# Altium integrated library ON Semi Digital Transistors (BRTs).IntLib: 470 symbols (part 5 of 11)
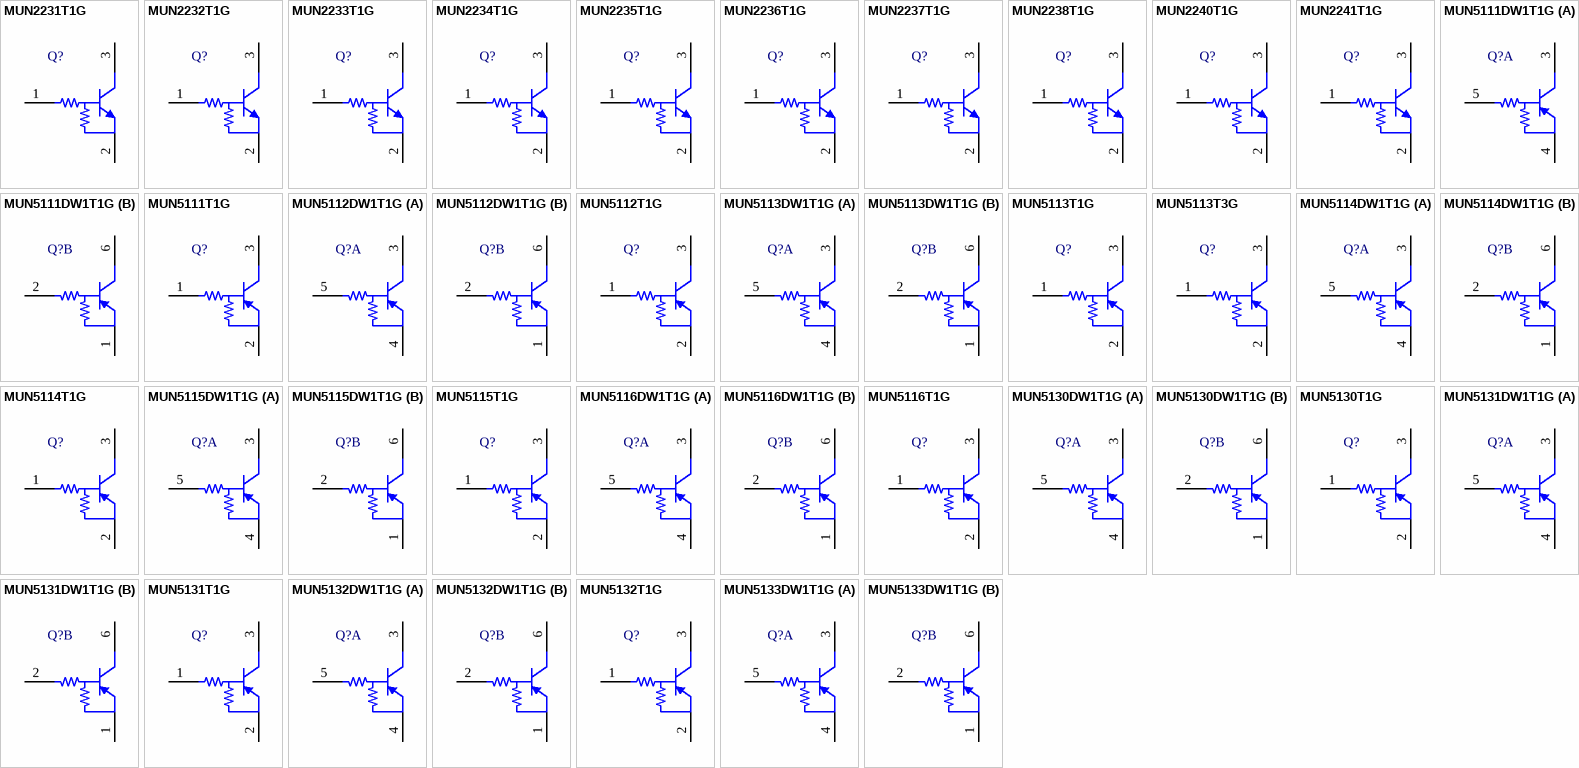
[diagram p20: symbols MUN2231T1G to MUN5133DW1T1G]

## MUN5115T1G
designator Q?
Digital Transistor (BRT), R1=10 kOhm, R2=infinity kOhm, PNP Transistor, 3-Pin SC70, Pb-Free, Tape and Reel; Manufacturer: On Semiconductor; PartNumber: MUN5115T1G; hFE Min: 160; IC Continuous (A): 0.1; V(BR)CEO Min (V): 50; DatasheetVersion: Rev. 2; PackageVersion: Rev. N, 11/2008; PackageReference: SC-70-3-419-04; PackageDescription: 3-Pin Small Outline Transistor, Body 2 x 1.25 mm, Pitch 0.65 mm; Supplier 1: Digi-Key; Supplier Part Number 1: MUN5115T1G-ND; Supplier 2: Mouser; Supplier Part Number 2: 863-MUN5115T1G; Packing: Tape and Reel; Polarity: PNP; RoHS: TRUE; Mounting Technology: Surface Mount; ComponentLink1Description: Manufacturer URL; ComponentLink1URL: http://www.onsemi.com/; ComponentLink2Description: Datasheet; ComponentLink2URL: http://www.onsemi.cn/pub_link/Collateral/DTA114T-D.PDF; ComponentLink3Description: Package Specification; ComponentLink3URL: http://www.onsemi.cn/pub_link/Collateral/419-04.PDF
footprint ONSC-SC-70-3-419-04_V (SOT23, 3-Leads, Body 2x1.25mm, Pitch 0.65mm)
pins: 1 B, 2 E, 3 C

## MUN5116DW1T1G
designator Q?
Dual PNP Bias Resistor Transistors, R1=4.7 kOhm, R2=infinity kOhm, PNP Transistor, 6-Pin SOT-363, Pb-Free, Tape and Reel; Manufacturer: On Semiconductor; PartNumber: MUN5116DW1T1G; hFE Min: 160; IC Continuous (A): 0.1; V(BR)CEO Min (V): 50; DatasheetVersion: Rev. 0; PackageVersion: Rev. W, 01/2006; PackageReference: SOT-363-6-419B-02_W; PackageDescription: 6-Pin Small Outline Transistor, Body 2 x 1.25 mm, Pitch 0.65 mm; Supplier 1: Digi-Key; Supplier Part Number 1: MUN5116DW1T1G-ND; Supplier 2: Mouser; Supplier Part Number 2: 863-MUN5116DW1T1G; Packing: Tape and Reel; Polarity: Dual PNP; RoHS: TRUE; Mounting Technology: Surface Mount; ComponentLink1Description: Manufacturer URL; ComponentLink1URL: http://www.onsemi.com/; ComponentLink2Description: Datasheet; ComponentLink2URL: http://www.onsemi.cn/pub_link/Collateral/DTA143TD-D.PDF; ComponentLink3Description: Package Specification; ComponentLink3URL: http://www.onsemi.com/pub_link/Collateral/NTJD4001N-D.PDF
footprint ONSC-SOT-363-6-419B-02_W_V (SOT23, 6-Leads, Body 2x1.25mm, Pitch 0.65mm)
part A pins: 3 C, 4 E, 5 B
part B pins: 1 E, 2 B, 6 C

## MUN5116T1G
designator Q?
Digital Transistor (BRT), R1=4.7 kOhm, R2=infinity kOhm, PNP Transistor, 3-Pin SC70, Pb-Free, Tape and Reel; Manufacturer: On Semiconductor; PartNumber: MUN5116T1G; hFE Min: 160; IC Continuous (A): 0.1; V(BR)CEO Min (V): 50; DatasheetVersion: Rev. 2; PackageVersion: Rev. N, 11/2008; PackageReference: SC-70-3-419-04; PackageDescription: 3-Pin Small Outline Transistor, Body 2 x 1.25 mm, Pitch 0.65 mm; Supplier 1: Digi-Key; Supplier Part Number 1: MUN5116T1G-ND; Supplier 2: Mouser; Supplier Part Number 2: 863-MUN5116T1G; Packing: Tape and Reel; Polarity: PNP; RoHS: TRUE; Mounting Technology: Surface Mount; ComponentLink1Description: Manufacturer URL; ComponentLink1URL: http://www.onsemi.com/; ComponentLink2Description: Datasheet; ComponentLink2URL: http://www.onsemi.cn/pub_link/Collateral/DTA143T-D.PDF; ComponentLink3Description: Package Specification; ComponentLink3URL: http://www.onsemi.cn/pub_link/Collateral/419-04.PDF
footprint ONSC-SC-70-3-419-04_V (SOT23, 3-Leads, Body 2x1.25mm, Pitch 0.65mm)
pins: 1 B, 2 E, 3 C

## MUN5130DW1T1G
designator Q?
Dual PNP Bias Resistor Transistors, R1=1 kOhm, R2=1 kOhm, PNP Transistor, 6-Pin SOT-363, Pb-Free, Tape and Reel; Manufacturer: On Semiconductor; PartNumber: MUN5130DW1T1G; hFE Min: 3; IC Continuous (A): 0.1; R1/R2 Typ: 1; V(BR)CEO Min (V): 50; DatasheetVersion: Rev. 2; PackageVersion: Rev. Y, 12/2012; PackageReference: SOT-363-6-419B-02; PackageDescription: 6-Pin Small Outline Transistor, Body 2 x 1.25 mm, Pitch 0.65 mm; Supplier 1: Digi-Key; Supplier Part Number 1: MUN5130DW1T1G-ND; Supplier 2: Mouser; Supplier Part Number 2: 863-MUN5130DW1T1G; Packing: Tape and Reel; Polarity: Dual PNP; RoHS: TRUE; Mounting Technology: Surface Mount; ComponentLink1Description: Manufacturer URL; ComponentLink1URL: http://www.onsemi.com/; ComponentLink2Description: Datasheet; ComponentLink2URL: http://www.onsemi.cn/pub_link/Collateral/DTA113ED-D.PDF; ComponentLink3Description: Package Specification; ComponentLink3URL: http://www.onsemi.cn/pub_link/Collateral/419B-02.PDF
footprint ONSC-SOT-363-6-419B-02_V (SOT23, 6-Leads, Body 2x1.25mm, Pitch 0.65mm)
part A pins: 3 C, 4 E, 5 B
part B pins: 1 E, 2 B, 6 C

## MUN5130T1G
designator Q?
Digital Transistor (BRT), R1=1 kOhm, R2=1 kOhm, PNP Transistor, 3-Pin SC70, Pb-Free, Tape and Reel; Manufacturer: On Semiconductor; PartNumber: MUN5130T1G; hFE Min: 3; IC Continuous (A): 0.1; R1/R2 Typ: 1; V(BR)CEO Min (V): 50; DatasheetVersion: Rev. 4; PackageVersion: Rev. N, 11/2008; PackageReference: SC-70-3-419-04; PackageDescription: 3-Pin Small Outline Transistor, Body 2 x 1.25 mm, Pitch 0.65 mm; Supplier 1: Mouser; Supplier Part Number 1: 863-MUN5130T1G; Packing: Tape and Reel; Polarity: PNP; RoHS: TRUE; Mounting Technology: Surface Mount; ComponentLink1Description: Manufacturer URL; ComponentLink1URL: http://www.onsemi.com/; ComponentLink2Description: Datasheet; ComponentLink2URL: http://www.onsemi.cn/pub_link/Collateral/DTA113E-D.PDF; ComponentLink3Description: Package Specification; ComponentLink3URL: http://www.onsemi.cn/pub_link/Collateral/419-04.PDF
footprint ONSC-SC-70-3-419-04_V (SOT23, 3-Leads, Body 2x1.25mm, Pitch 0.65mm)
pins: 1 B, 2 E, 3 C

## MUN5131DW1T1G
designator Q?
Dual PNP Bias Resistor Transistors, R1=2.2 kOhm, R2=2.2 kOhm, PNP Transistor, 6-Pin SOT-363, Pb-Free, Tape and Reel; Manufacturer: On Semiconductor; PartNumber: MUN5131DW1T1G; hFE Min: 8; IC Continuous (A): 0.1; R1/R2 Typ: 1; V(BR)CEO Min (V): 50; DatasheetVersion: Rev. 0; PackageVersion: Rev. W, 01/2006; PackageReference: SOT-363-6-419B-02_W; PackageDescription: 6-Pin Small Outline Transistor, Body 2 x 1.25 mm, Pitch 0.65 mm; Supplier 1: Digi-Key; Supplier Part Number 1: MUN5131DW1T1G-ND; Supplier 2: Mouser; Supplier Part Number 2: 863-MUN5131DW1T1G; Packing: Tape and Reel; Polarity: Dual PNP; RoHS: TRUE; Mounting Technology: Surface Mount; ComponentLink1Description: Manufacturer URL; ComponentLink1URL: http://www.onsemi.com/; ComponentLink2Description: Datasheet; ComponentLink2URL: http://www.onsemi.cn/pub_link/Collateral/DTA123ED-D.PDF; ComponentLink3Description: Package Specification; ComponentLink3URL: http://www.onsemi.com/pub_link/Collateral/NTJD4001N-D.PDF
footprint ONSC-SOT-363-6-419B-02_W_V (SOT23, 6-Leads, Body 2x1.25mm, Pitch 0.65mm)
part A pins: 3 C, 4 E, 5 B
part B pins: 1 E, 2 B, 6 C

## MUN5131T1G
designator Q?
Digital Transistor (BRT), R1=2.2 kOhm, R2=2.2 kOhm, PNP Transistor, 3-Pin SC70, Pb-Free, Tape and Reel; Manufacturer: On Semiconductor; PartNumber: MUN5131T1G; hFE Min: 8; IC Continuous (A): 0.1; R1/R2 Typ: 1; V(BR)CEO Min (V): 50; DatasheetVersion: Rev. 3; PackageVersion: Rev. N, 11/2008; PackageReference: SC-70-3-419-04; PackageDescription: 3-Pin Small Outline Transistor, Body 2 x 1.25 mm, Pitch 0.65 mm; Supplier 1: Digi-Key; Supplier Part Number 1: MUN5131T1G-ND; Supplier 2: Newark; Supplier Part Number 2: 88H4929; Supplier 3: Mouser; Supplier Part Number 3: 863-MUN5131T1G; Packing: Tape and Reel; Polarity: PNP; RoHS: TRUE; Mounting Technology: Surface Mount; ComponentLink1Description: Manufacturer URL; ComponentLink1URL: http://www.onsemi.com/; ComponentLink2Description: Datasheet; ComponentLink2URL: http://www.onsemi.cn/pub_link/Collateral/DTA123E-D.PDF; ComponentLink3Description: Package Specification; ComponentLink3URL: http://www.onsemi.cn/pub_link/Collateral/419-04.PDF
footprint ONSC-SC-70-3-419-04_V (SOT23, 3-Leads, Body 2x1.25mm, Pitch 0.65mm)
pins: 1 B, 2 E, 3 C

## MUN5132DW1T1G
designator Q?
Dual PNP Bias Resistor Transistors, R1=4.7 kOhm, R2=4.7 kOhm, PNP Transistor, 6-Pin SOT-363, Pb-Free, Tape and Reel; Manufacturer: On Semiconductor; PartNumber: MUN5132DW1T1G; hFE Min: 15; IC Continuous (A): 0.1; R1/R2 Typ: 1; V(BR)CEO Min (V): 50; DatasheetVersion: Rev. 0; PackageVersion: Rev. W, 01/2006; PackageReference: SOT-363-6-419B-02_W; PackageDescription: 6-Pin Small Outline Transistor, Body 2 x 1.25 mm, Pitch 0.65 mm; Supplier 1: Mouser; Supplier Part Number 1: 863-MUN5132DW1T1G; Packing: Tape and Reel; Polarity: Dual PNP; RoHS: TRUE; Mounting Technology: Surface Mount; ComponentLink1Description: Manufacturer URL; ComponentLink1URL: http://www.onsemi.com/; ComponentLink2Description: Datasheet; ComponentLink2URL: http://www.onsemi.cn/pub_link/Collateral/DTA143ED-D.PDF; ComponentLink3Description: Package Specification; ComponentLink3URL: http://www.onsemi.com/pub_link/Collateral/NTJD4001N-D.PDF
footprint ONSC-SOT-363-6-419B-02_W_V (SOT23, 6-Leads, Body 2x1.25mm, Pitch 0.65mm)
part A pins: 3 C, 4 E, 5 B
part B pins: 1 E, 2 B, 6 C

## MUN5132T1G
designator Q?
Digital Transistor (BRT), R1=4.7 kOhm, R2=4.7 kOhm, PNP Transistor, 3-Pin SC70, Pb-Free, Tape and Reel; Manufacturer: On Semiconductor; PartNumber: MUN5132T1G; hFE Min: 15; IC Continuous (A): 0.1; R1/R2 Typ: 1; V(BR)CEO Min (V): 50; DatasheetVersion: Rev. 2; PackageVersion: Rev. N, 11/2008; PackageReference: SC-70-3-419-04; PackageDescription: 3-Pin Small Outline Transistor, Body 2 x 1.25 mm, Pitch 0.65 mm; Supplier 1: Digi-Key; Supplier Part Number 1: MUN5132T1G-ND; Supplier 2: Newark; Supplier Part Number 2: 45J1720; Supplier 3: Mouser; Supplier Part Number 3: 863-MUN5132T1G; Packing: Tape and Reel; Polarity: PNP; RoHS: TRUE; Mounting Technology: Surface Mount; ComponentLink1Description: Manufacturer URL; ComponentLink1URL: http://www.onsemi.com/; ComponentLink2Description: Datasheet; ComponentLink2URL: http://www.onsemi.cn/pub_link/Collateral/DTA143E-D.PDF; ComponentLink3Description: Package Specification; ComponentLink3URL: http://www.onsemi.cn/pub_link/Collateral/419-04.PDF
footprint ONSC-SC-70-3-419-04_V (SOT23, 3-Leads, Body 2x1.25mm, Pitch 0.65mm)
pins: 1 B, 2 E, 3 C

## MUN5133DW1T1G
designator Q?
Dual PNP Bias Resistor Transistors, R1=4.7 kOhm, R2=47 kOhm, PNP Transistor, 6-Pin SOT-363, Pb-Free, Tape and Reel; Manufacturer: On Semiconductor; PartNumber: MUN5133DW1T1G; hFE Min: 80; IC Continuous (A): 0.1; V(BR)CEO Min (V): 50; DatasheetVersion: Rev. 1; PackageVersion: Rev. W, 01/2006; PackageReference: SOT-363-6-419B-02_W; PackageDescription: 6-Pin Small Outline Transistor, Body 2 x 1.25 mm, Pitch 0.65 mm; Supplier 1: Digi-Key; Supplier Part Number 1: MUN5133DW1T1G-ND; Supplier 2: Mouser; Supplier Part Number 2: 863-MUN5133DW1T1G; Packing: Tape and Reel; Polarity: Dual PNP; R1/R2 Typ: 0.1; RoHS: TRUE; Mounting Technology: Surface Mount; ComponentLink1Description: Manufacturer URL; ComponentLink1URL: http://www.onsemi.com/; ComponentLink2Description: Datasheet; ComponentLink2URL: http://www.onsemi.cn/pub_link/Collateral/DTA143ZD-D.PDF; ComponentLink3Description: Package Specification; ComponentLink3URL: http://www.onsemi.com/pub_link/Collateral/NTJD4001N-D.PDF
footprint ONSC-SOT-363-6-419B-02_W_V (SOT23, 6-Leads, Body 2x1.25mm, Pitch 0.65mm)
part A pins: 3 C, 4 E, 5 B
part B pins: 1 E, 2 B, 6 C

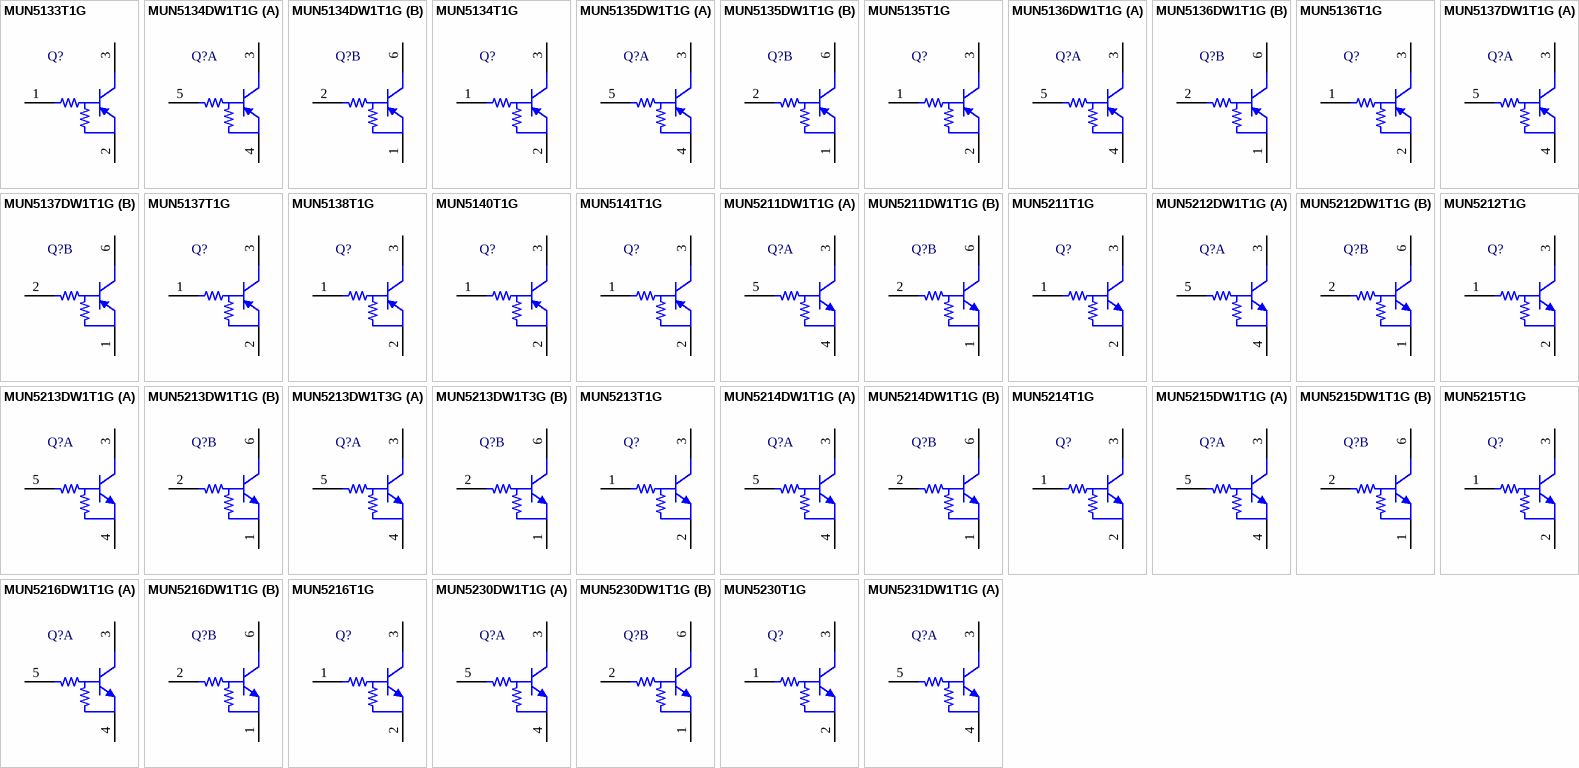
[diagram p5: symbols MUN5133T1G to MUN5231DW1T1G]

## MUN5133T1G
designator Q?
Digital Transistor (BRT), R1=4.7 kOhm, R2=47 kOhm, PNP Transistor, 3-Pin SC70, Pb-Free, Tape and Reel; Manufacturer: On Semiconductor; PartNumber: MUN5133T1G; hFE Min: 80; IC Continuous (A): 0.1; V(BR)CEO Min (V): 50; DatasheetVersion: Rev. 6; PackageVersion: Rev. N, 11/2008; PackageReference: SC-70-3-419-04; PackageDescription: 3-Pin Small Outline Transistor, Body 2 x 1.25 mm, Pitch 0.65 mm; Supplier 1: Digi-Key; Supplier Part Number 1: MUN5133T1G-ND; Supplier 2: Mouser; Supplier Part Number 2: 863-MUN5133T1G; Packing: Tape and Reel; Polarity: PNP; R1/R2 Typ: 0.1; RoHS: TRUE; Mounting Technology: Surface Mount; ComponentLink1Description: Manufacturer URL; ComponentLink1URL: http://www.onsemi.com/; ComponentLink2Description: Datasheet; ComponentLink2URL: http://www.onsemi.cn/pub_link/Collateral/DTA143Z-D.PDF; ComponentLink3Description: Package Specification; ComponentLink3URL: http://www.onsemi.cn/pub_link/Collateral/419-04.PDF
footprint ONSC-SC-70-3-419-04_V (SOT23, 3-Leads, Body 2x1.25mm, Pitch 0.65mm)
pins: 1 B, 2 E, 3 C

## MUN5134DW1T1G
designator Q?
Dual PNP Bias Resistor Transistors, R1=22 kOhm, R2=47 kOhm, PNP Transistor, 6-Pin SOT-363, Pb-Free, Tape and Reel; Manufacturer: On Semiconductor; PartNumber: MUN5134DW1T1G; hFE Min: 80; IC Continuous (A): 0.1; R1/R2 Typ: 0.47; V(BR)CEO Min (V): 50; DatasheetVersion: Rev. 0; PackageVersion: Rev. W, 01/2006; PackageReference: SOT-363-6-419B-02_W; PackageDescription: 6-Pin Small Outline Transistor, Body 2 x 1.25 mm, Pitch 0.65 mm; Supplier 1: Digi-Key; Supplier Part Number 1: MUN5134DW1T1G-ND; Supplier 2: Mouser; Supplier Part Number 2: 863-MUN5134DW1T1G; Packing: Tape and Reel; Polarity: Dual PNP; RoHS: TRUE; Mounting Technology: Surface Mount; ComponentLink1Description: Manufacturer URL; ComponentLink1URL: http://www.onsemi.com/; ComponentLink2Description: Datasheet; ComponentLink2URL: http://www.onsemi.cn/pub_link/Collateral/DTA124XD-D.PDF; ComponentLink3Description: Package Specification; ComponentLink3URL: http://www.onsemi.com/pub_link/Collateral/NTJD4001N-D.PDF
footprint ONSC-SOT-363-6-419B-02_W_V (SOT23, 6-Leads, Body 2x1.25mm, Pitch 0.65mm)
part A pins: 3 C, 4 E, 5 B
part B pins: 1 E, 2 B, 6 C

## MUN5134T1G
designator Q?
Digital Transistor (BRT), R1=22 kOhm, R2=47 kOhm, PNP Transistor, 3-Pin SC70, Pb-Free, Tape and Reel; Manufacturer: On Semiconductor; PartNumber: MUN5134T1G; hFE Min: 80; IC Continuous (A): 0.1; R1/R2 Typ: 0.47; V(BR)CEO Min (V): 50; DatasheetVersion: Rev. 3; PackageVersion: Rev. N, 11/2008; PackageReference: SC-70-3-419-04; PackageDescription: 3-Pin Small Outline Transistor, Body 2 x 1.25 mm, Pitch 0.65 mm; Supplier 1: Mouser; Supplier Part Number 1: 863-MUN5134T1G; Packing: Tape and Reel; Polarity: PNP; RoHS: TRUE; Mounting Technology: Surface Mount; ComponentLink1Description: Manufacturer URL; ComponentLink1URL: http://www.onsemi.com/; ComponentLink2Description: Datasheet; ComponentLink2URL: http://www.onsemi.cn/pub_link/Collateral/DTA124X-D.PDF; ComponentLink3Description: Package Specification; ComponentLink3URL: http://www.onsemi.cn/pub_link/Collateral/419-04.PDF
footprint ONSC-SC-70-3-419-04_V (SOT23, 3-Leads, Body 2x1.25mm, Pitch 0.65mm)
pins: 1 B, 2 E, 3 C

## MUN5135DW1T1G
designator Q?
Dual PNP Bias Resistor Transistors, R1=2.2 kOhm, R2=47 kOhm, PNP Transistor, 6-Pin SOT-363, Pb-Free, Tape and Reel; Manufacturer: On Semiconductor; PartNumber: MUN5135DW1T1G; hFE Min: 80; IC Continuous (A): 0.1; R1/R2 Typ: 0.047; V(BR)CEO Min (V): 50; DatasheetVersion: Rev. 0; PackageVersion: Rev. W, 01/2006; PackageReference: SOT-363-6-419B-02_W; PackageDescription: 6-Pin Small Outline Transistor, Body 2 x 1.25 mm, Pitch 0.65 mm; Supplier 1: Digi-Key; Supplier Part Number 1: MUN5135DW1T1G-ND; Supplier 2: Newark; Supplier Part Number 2: 42K1564; Supplier 3: Mouser; Supplier Part Number 3: 863-MUN5135DW1T1G; Packing: Tape and Reel; Polarity: Dual PNP; RoHS: TRUE; Mounting Technology: Surface Mount; ComponentLink1Description: Manufacturer URL; ComponentLink1URL: http://www.onsemi.com/; ComponentLink2Description: Datasheet; ComponentLink2URL: http://www.onsemi.cn/pub_link/Collateral/DTA123JD-D.PDF; ComponentLink3Description: Package Specification; ComponentLink3URL: http://www.onsemi.com/pub_link/Collateral/NTJD4001N-D.PDF
footprint ONSC-SOT-363-6-419B-02_W_V (SOT23, 6-Leads, Body 2x1.25mm, Pitch 0.65mm)
part A pins: 3 C, 4 E, 5 B
part B pins: 1 E, 2 B, 6 C

## MUN5135T1G
designator Q?
Digital Transistor (BRT), R1=2.2 kOhm, R2=47 kOhm, PNP Transistor, 3-Pin SC70, Pb-Free, Tape and Reel; Manufacturer: On Semiconductor; PartNumber: MUN5135T1G; hFE Min: 80; IC Continuous (A): 0.1; R1/R2 Typ: 0.047; V(BR)CEO Min (V): 50; DatasheetVersion: Rev. 2; PackageVersion: Rev. N, 11/2008; PackageReference: SC-70-3-419-04; PackageDescription: 3-Pin Small Outline Transistor, Body 2 x 1.25 mm, Pitch 0.65 mm; Supplier 1: Digi-Key; Supplier Part Number 1: MUN5135T1GOSTR-ND; Supplier 2: Digi-Key; Supplier Part Number 2: MUN5135T1GOSCT-ND; Supplier 3: Digi-Key; Supplier Part Number 3: MUN5135T1GOSDKR-ND; Supplier 4: Newark; Supplier Part Number 4: 26K4679; Supplier 5: Mouser; Supplier Part Number 5: 863-MUN5135T1G; Packing: Tape and Reel; Polarity: PNP; RoHS: TRUE; Mounting Technology: Surface Mount; ComponentLink1Description: Manufacturer URL; ComponentLink1URL: http://www.onsemi.com/; ComponentLink2Description: Datasheet; ComponentLink2URL: http://www.onsemi.cn/pub_link/Collateral/DTA123J-D.PDF; ComponentLink3Description: Package Specification; ComponentLink3URL: http://www.onsemi.cn/pub_link/Collateral/419-04.PDF
footprint ONSC-SC-70-3-419-04_V (SOT23, 3-Leads, Body 2x1.25mm, Pitch 0.65mm)
pins: 1 B, 2 E, 3 C

## MUN5136DW1T1G
designator Q?
Dual PNP Bias Resistor Transistors, R1=100 kOhm, R2=100 kOhm, PNP Transistor, 6-Pin SOT-363, Pb-Free, Tape and Reel; Manufacturer: On Semiconductor; PartNumber: MUN5136DW1T1G; hFE Min: 80; IC Continuous (A): 0.1; R1/R2 Typ: 1; V(BR)CEO Min (V): 50; DatasheetVersion: Rev. 0; PackageVersion: Rev. Y, 12/2012; PackageReference: SOT-363-6-419B-02; PackageDescription: 6-Pin Small Outline Transistor, Body 2 x 1.25 mm, Pitch 0.65 mm; Supplier 1: Mouser; Supplier Part Number 1: N/A; Packing: Tape and Reel; Polarity: Dual PNP; RoHS: TRUE; Mounting Technology: Surface Mount; ComponentLink1Description: Manufacturer URL; ComponentLink1URL: http://www.onsemi.com/; ComponentLink2Description: Datasheet; ComponentLink2URL: http://www.onsemi.cn/pub_link/Collateral/DTA115ED-D.PDF; ComponentLink3Description: Package Specification; ComponentLink3URL: http://www.onsemi.cn/pub_link/Collateral/419B-02.PDF
footprint ONSC-SOT-363-6-419B-02_V (SOT23, 6-Leads, Body 2x1.25mm, Pitch 0.65mm)
part A pins: 3 C, 4 E, 5 B
part B pins: 1 E, 2 B, 6 C

## MUN5136T1G
designator Q?
Digital Transistor (BRT), R1=100 kOhm, R2=100 kOhm, PNP Transistor, 3-Pin SC70, Pb-Free, Tape and Reel; Manufacturer: On Semiconductor; PartNumber: MUN5136T1G; hFE Min: 80; IC Continuous (A): 0.1; R1/R2 Typ: 1; V(BR)CEO Min (V): 50; DatasheetVersion: Rev. 2; PackageVersion: Rev. N, 11/2008; PackageReference: SC-70-3-419-04; PackageDescription: 3-Pin Small Outline Transistor, Body 2 x 1.25 mm, Pitch 0.65 mm; Supplier 1: Mouser; Supplier Part Number 1: 863-MUN5136T1G; Packing: Tape and Reel; Polarity: PNP; RoHS: TRUE; Mounting Technology: Surface Mount; ComponentLink1Description: Manufacturer URL; ComponentLink1URL: http://www.onsemi.com/; ComponentLink2Description: Datasheet; ComponentLink2URL: http://www.onsemi.cn/pub_link/Collateral/DTA115E-D.PDF; ComponentLink3Description: Package Specification; ComponentLink3URL: http://www.onsemi.cn/pub_link/Collateral/419-04.PDF
footprint ONSC-SC-70-3-419-04_V (SOT23, 3-Leads, Body 2x1.25mm, Pitch 0.65mm)
pins: 1 B, 2 E, 3 C

## MUN5137DW1T1G
designator Q?
Dual PNP Bias Resistor Transistors, R1=47 kOhm, R2=22 kOhm, PNP Transistor, 6-Pin SOT-363, Pb-Free, Tape and Reel; Manufacturer: On Semiconductor; PartNumber: MUN5137DW1T1G; hFE Min: 80; IC Continuous (A): 0.1; R1/R2 Typ: 2.1; V(BR)CEO Min (V): 50; DatasheetVersion: Rev. 1; PackageVersion: Rev. Y, 12/2012; PackageReference: SOT-363-6-419B-02; PackageDescription: 6-Pin Small Outline Transistor, Body 2 x 1.25 mm, Pitch 0.65 mm; Supplier 1: Digi-Key; Supplier Part Number 1: MUN5137DW1T1GOS-ND; Supplier 2: Mouser; Supplier Part Number 2: 863-MUN5137DW1T1G; Packing: Tape and Reel; Polarity: Dual PNP; RoHS: TRUE; Mounting Technology: Surface Mount; ComponentLink1Description: Manufacturer URL; ComponentLink1URL: http://www.onsemi.com/; ComponentLink2Description: Datasheet; ComponentLink2URL: http://www.onsemi.cn/pub_link/Collateral/DTA144WD-D.PDF; ComponentLink3Description: Package Specification; ComponentLink3URL: http://www.onsemi.cn/pub_link/Collateral/419B-02.PDF
footprint ONSC-SOT-363-6-419B-02_V (SOT23, 6-Leads, Body 2x1.25mm, Pitch 0.65mm)
part A pins: 3 C, 4 E, 5 B
part B pins: 1 E, 2 B, 6 C

## MUN5137T1G
designator Q?
Digital Transistor (BRT), R1=47 kOhm, R2=22 kOhm, PNP Transistor, 3-Pin SC70, Pb-Free, Tape and Reel; Manufacturer: On Semiconductor; PartNumber: MUN5137T1G; hFE Min: 80; IC Continuous (A): 0.1; R1/R2 Typ: 2.1; V(BR)CEO Min (V): 50; DatasheetVersion: Rev. 2; PackageVersion: Rev. N, 11/2008; PackageReference: SC-70-3-419-04; PackageDescription: 3-Pin Small Outline Transistor, Body 2 x 1.25 mm, Pitch 0.65 mm; Supplier 1: Digi-Key; Supplier Part Number 1: MUN5137T1GOS-ND; Supplier 2: Mouser; Supplier Part Number 2: 863-MUN5137T1G; Packing: Tape and Reel; Polarity: PNP; RoHS: TRUE; Mounting Technology: Surface Mount; ComponentLink1Description: Manufacturer URL; ComponentLink1URL: http://www.onsemi.com/; ComponentLink2Description: Datasheet; ComponentLink2URL: http://www.onsemi.cn/pub_link/Collateral/DTA144W-D.PDF; ComponentLink3Description: Package Specification; ComponentLink3URL: http://www.onsemi.cn/pub_link/Collateral/419-04.PDF
footprint ONSC-SC-70-3-419-04_V (SOT23, 3-Leads, Body 2x1.25mm, Pitch 0.65mm)
pins: 1 B, 2 E, 3 C

## MUN5138T1G
designator Q?
Digital Transistor (BRT), R1=2.2 kOhm, R2=infinity kOhm, PNP Transistor, 3-Pin SC70, Pb-Free, Tape and Reel; Manufacturer: On Semiconductor; PartNumber: MUN5138T1G; hFE Min: 160; IC Continuous (A): 0.1; V(BR)CEO Min (V): 50; DatasheetVersion: Rev. 2; PackageVersion: Rev. N, 11/2008; PackageReference: SC-70-3-419-04; PackageDescription: 3-Pin Small Outline Transistor, Body 2 x 1.25 mm, Pitch 0.65 mm; Supplier 1: Newark; Supplier Part Number 1: 97W6159; Supplier 2: Mouser; Supplier Part Number 2: 863-MUN5138T1G; Packing: Tape and Reel; Polarity: PNP; RoHS: TRUE; Mounting Technology: Surface Mount; ComponentLink1Description: Manufacturer URL; ComponentLink1URL: http://www.onsemi.com/; ComponentLink2Description: Datasheet; ComponentLink2URL: http://www.onsemi.cn/pub_link/Collateral/DTA123T-D.PDF; ComponentLink3Description: Package Specification; ComponentLink3URL: http://www.onsemi.cn/pub_link/Collateral/419-04.PDF
footprint ONSC-SC-70-3-419-04_V (SOT23, 3-Leads, Body 2x1.25mm, Pitch 0.65mm)
pins: 1 B, 2 E, 3 C

## MUN5140T1G
designator Q?
Digital Transistor (BRT), R1=47 kOhm, R2=infinity kOhm, PNP Transistor, 3-Pin SC70, Pb-Free, Tape and Reel; Manufacturer: On Semiconductor; PartNumber: MUN5140T1G; hFE Min: 120; IC Continuous (A): 0.1; V(BR)CEO Min (V): 50; DatasheetVersion: Rev. 2; PackageVersion: Rev. N, 11/2008; PackageReference: SC-70-3-419-04; PackageDescription: 3-Pin Small Outline Transistor, Body 2 x 1.25 mm, Pitch 0.65 mm; Supplier 1: Newark; Supplier Part Number 1: 97W6160; Supplier 2: Mouser; Supplier Part Number 2: 863-MUN5140T1G; Packing: Tape and Reel; Polarity: PNP; RoHS: TRUE; Mounting Technology: Surface Mount; ComponentLink1Description: Manufacturer URL; ComponentLink1URL: http://www.onsemi.com/; ComponentLink2Description: Datasheet; ComponentLink2URL: http://www.onsemi.cn/pub_link/Collateral/DTA144T-D.PDF; ComponentLink3Description: Package Specification; ComponentLink3URL: http://www.onsemi.cn/pub_link/Collateral/419-04.PDF
footprint ONSC-SC-70-3-419-04_V (SOT23, 3-Leads, Body 2x1.25mm, Pitch 0.65mm)
pins: 1 B, 2 E, 3 C

## MUN5141T1G
designator Q?
Digital Transistor (BRT), R1=100 kOhm, R2=infinity kOhm, PNP Transistor, 3-Pin SC70, Pb-Free, Tape and Reel; Manufacturer: On Semiconductor; PartNumber: MUN5141T1G; hFE Min: 160; IC Continuous (A): 0.1; V(BR)CEO Min (V): 50; DatasheetVersion: Rev. 2; PackageVersion: Rev. N, 11/2008; PackageReference: SC-70-3-419-04; PackageDescription: 3-Pin Small Outline Transistor, Body 2 x 1.25 mm, Pitch 0.65 mm; Supplier 1: Newark; Supplier Part Number 1: 97W6161; Supplier 2: Mouser; Supplier Part Number 2: 863-MUN5141T1G; Packing: Tape and Reel; Polarity: PNP; RoHS: TRUE; Mounting Technology: Surface Mount; ComponentLink1Description: Manufacturer URL; ComponentLink1URL: http://www.onsemi.com/; ComponentLink2Description: Datasheet; ComponentLink2URL: http://www.onsemi.cn/pub_link/Collateral/DTA115T-D.PDF; ComponentLink3Description: Package Specification; ComponentLink3URL: http://www.onsemi.cn/pub_link/Collateral/419-04.PDF
footprint ONSC-SC-70-3-419-04_V (SOT23, 3-Leads, Body 2x1.25mm, Pitch 0.65mm)
pins: 1 B, 2 E, 3 C

## MUN5211DW1T1G
designator Q?
Dual NPN Bias Resistor Transistors, R1=10 kOhm, R2=10 kOhm, NPN Transistor, 6-Pin SOT-363, Pb-Free, Tape and Reel; Manufacturer: On Semiconductor; PartNumber: MUN5211DW1T1G; hFE Min: 35; IC Continuous (A): 0.1; R1/R2 Typ: 1; V(BR)CEO Min (V): 50; DatasheetVersion: Rev. 1; PackageVersion: Rev. Y, 12/2012; PackageReference: SOT-363-6-419B-02; PackageDescription: 6-Pin Small Outline Transistor, Body 2 x 1.25 mm, Pitch 0.65 mm; Supplier 1: Digi-Key; Supplier Part Number 1: MUN5211DW1T1GOSTR-ND; Supplier 2: Digi-Key; Supplier Part Number 2: MUN5211DW1T1GOSCT-ND; Supplier 3: Digi-Key; Supplier Part Number 3: MUN5211DW1T1GOSDKR-ND; Supplier 4: Farnell; Supplier Part Number 4: 2317633; Supplier 5: Farnell; Supplier Part Number 5: 1885834; Supplier 6: Newark; Supplier Part Number 6: 84K8819; Supplier 7: Newark; Supplier Part Number 7: 45J1722; Supplier 8: Mouser; Supplier Part Number 8: 863-MUN5211DW1T1G; Packing: Tape and Reel; Polarity: Dual NPN; RoHS: TRUE; Mounting Technology: Surface Mount; ComponentLink1Description: Manufacturer URL; ComponentLink1URL: http://www.onsemi.com/; ComponentLink2Description: Datasheet; ComponentLink2URL: http://www.onsemi.cn/pub_link/Collateral/DTC114ED-D.PDF; ComponentLink3Description: Package Specification; ComponentLink3URL: http://www.onsemi.cn/pub_link/Collateral/419B-02.PDF
footprint ONSC-SOT-363-6-419B-02_V (SOT23, 6-Leads, Body 2x1.25mm, Pitch 0.65mm)
part A pins: 3 C, 4 E, 5 B
part B pins: 1 E, 2 B, 6 C

## MUN5211T1G
designator Q?
Digital Transistor (BRT), R1=10 kOhm, R2=10 kOhm, NPN Transistor, 3-Pin SC70, Pb-Free, Tape and Reel; Manufacturer: On Semiconductor; PartNumber: MUN5211T1G; hFE Min: 35; IC Continuous (A): 0.1; R1/R2 Typ: 1; V(BR)CEO Min (V): 50; DatasheetVersion: Rev. 5; PackageVersion: Rev. N, 11/2008; PackageReference: SC-70-3-419-04; PackageDescription: 3-Pin Small Outline Transistor, Body 2 x 1.25 mm, Pitch 0.65 mm; Supplier 1: Digi-Key; Supplier Part Number 1: MUN5211T1GOSTR-ND; Supplier 2: Digi-Key; Supplier Part Number 2: MUN5211T1GOSCT-ND; Supplier 3: Digi-Key; Supplier Part Number 3: MUN5211T1GOSDKR-ND; Supplier 4: Farnell; Supplier Part Number 4: 2317907; Supplier 5: Newark; Supplier Part Number 5: 85W3172; Supplier 6: Newark; Supplier Part Number 6: 88H4930; Supplier 7: Mouser; Supplier Part Number 7: 863-MUN5211T1G; Packing: Tape and Reel; Polarity: NPN; RoHS: TRUE; Mounting Technology: Surface Mount; ComponentLink1Description: Manufacturer URL; ComponentLink1URL: http://www.onsemi.com/; ComponentLink2Description: Datasheet; ComponentLink2URL: http://www.onsemi.cn/pub_link/Collateral/DTC114E-D.PDF; ComponentLink3Description: Package Specification; ComponentLink3URL: http://www.onsemi.cn/pub_link/Collateral/419-04.PDF
footprint ONSC-SC-70-3-419-04_V (SOT23, 3-Leads, Body 2x1.25mm, Pitch 0.65mm)
pins: 1 B, 2 E, 3 C

## MUN5212DW1T1G
designator Q?
Dual NPN Bias Resistor Transistors, R1=22 kOhm, R2=22 kOhm, NPN Transistor, 6-Pin SOT-363, Pb-Free, Tape and Reel; Manufacturer: On Semiconductor; PartNumber: MUN5212DW1T1G; hFE Min: 60; IC Continuous (A): 0.1; R1/R2 Typ: 1; V(BR)CEO Min (V): 50; DatasheetVersion: Rev. 0; PackageVersion: Rev. W, 01/2006; PackageReference: SOT-363-6-419B-02_W; PackageDescription: 6-Pin Small Outline Transistor, Body 2 x 1.25 mm, Pitch 0.65 mm; Supplier 1: Digi-Key; Supplier Part Number 1: MUN5212DW1T1GOSTR-ND; Supplier 2: Digi-Key; Supplier Part Number 2: MUN5212DW1T1GOSCT-ND; Supplier 3: Digi-Key; Supplier Part Number 3: MUN5212DW1T1GOSDKR-ND; Supplier 4: Newark; Supplier Part Number 4: 26K4681; Supplier 5: Mouser; Supplier Part Number 5: 863-MUN5212DW1T1G; Packing: Tape and Reel; Polarity: Dual NPN; RoHS: TRUE; Mounting Technology: Surface Mount; ComponentLink1Description: Manufacturer URL; ComponentLink1URL: http://www.onsemi.com/; ComponentLink2Description: Datasheet; ComponentLink2URL: http://www.onsemi.cn/pub_link/Collateral/DTC124ED-D.PDF; ComponentLink3Description: Package Specification; ComponentLink3URL: http://www.onsemi.com/pub_link/Collateral/NTJD4001N-D.PDF
footprint ONSC-SOT-363-6-419B-02_W_V (SOT23, 6-Leads, Body 2x1.25mm, Pitch 0.65mm)
part A pins: 3 C, 4 E, 5 B
part B pins: 1 E, 2 B, 6 C

## MUN5212T1G
designator Q?
Digital Transistor (BRT), R1=22 kOhm, R2=22 kOhm, NPN Transistor, 3-Pin SC70, Pb-Free, Tape and Reel; Manufacturer: On Semiconductor; PartNumber: MUN5212T1G; hFE Min: 60; IC Continuous (A): 0.1; R1/R2 Typ: 1; V(BR)CEO Min (V): 50; DatasheetVersion: Rev. 2; PackageVersion: Rev. N, 11/2008; PackageReference: SC-70-3-419-04; PackageDescription: 3-Pin Small Outline Transistor, Body 2 x 1.25 mm, Pitch 0.65 mm; Supplier 1: Digi-Key; Supplier Part Number 1: MUN5212T1GOSTR-ND; Supplier 2: Digi-Key; Supplier Part Number 2: MUN5212T1GOSCT-ND; Supplier 3: Digi-Key; Supplier Part Number 3: MUN5212T1GOSDKR-ND; Supplier 4: Newark; Supplier Part Number 4: 85W2302; Supplier 5: Mouser; Supplier Part Number 5: 863-MUN5212T1G; Packing: Tape and Reel; Polarity: NPN; RoHS: TRUE; Mounting Technology: Surface Mount; ComponentLink1Description: Manufacturer URL; ComponentLink1URL: http://www.onsemi.com/; ComponentLink2Description: Datasheet; ComponentLink2URL: http://www.onsemi.cn/pub_link/Collateral/DTC124E-D.PDF; ComponentLink3Description: Package Specification; ComponentLink3URL: http://www.onsemi.cn/pub_link/Collateral/419-04.PDF
footprint ONSC-SC-70-3-419-04_V (SOT23, 3-Leads, Body 2x1.25mm, Pitch 0.65mm)
pins: 1 B, 2 E, 3 C

## MUN5213DW1T1G
designator Q?
Dual NPN Bias Resistor Transistors, R1=47 kOhm, R2=47 kOhm, NPN Transistor, 6-Pin SOT-363, Pb-Free, Tape and Reel; Manufacturer: On Semiconductor; PartNumber: MUN5213DW1T1G; hFE Min: 80; IC Continuous (A): 0.1; R1/R2 Typ: 1; V(BR)CEO Min (V): 50; DatasheetVersion: Rev. 0; PackageVersion: Rev. Y, 12/2012; PackageReference: SOT-363-6-419B-02; PackageDescription: 6-Pin Small Outline Transistor, Body 2 x 1.25 mm, Pitch 0.65 mm; Supplier 1: Digi-Key; Supplier Part Number 1: MUN5213DW1T1GOSTR-ND; Supplier 2: Digi-Key; Supplier Part Number 2: MUN5213DW1T1GOSCT-ND; Supplier 3: Digi-Key; Supplier Part Number 3: MUN5213DW1T1GOSDKR-ND; Supplier 4: Newark; Supplier Part Number 4: 84K8820; Supplier 5: Mouser; Supplier Part Number 5: 863-MUN5213DW1T1G; Packing: Tape and Reel; Polarity: Dual NPN; RoHS: TRUE; Mounting Technology: Surface Mount; ComponentLink1Description: Manufacturer URL; ComponentLink1URL: http://www.onsemi.com/; ComponentLink2Description: Datasheet; ComponentLink2URL: http://www.onsemi.cn/pub_link/Collateral/DTC144ED-D.PDF; ComponentLink3Description: Package Specification; ComponentLink3URL: http://www.onsemi.cn/pub_link/Collateral/419B-02.PDF
footprint ONSC-SOT-363-6-419B-02_V (SOT23, 6-Leads, Body 2x1.25mm, Pitch 0.65mm)
part A pins: 3 C, 4 E, 5 B
part B pins: 1 E, 2 B, 6 C

## MUN5213DW1T3G
designator Q?
Dual NPN Bias Resistor Transistors, R1=47 kOhm, R2=47 kOhm, NPN Transistor, 6-Pin SOT-363, Pb-Free, Tape and Reel; Manufacturer: On Semiconductor; PartNumber: MUN5213DW1T3G; hFE Min: 80; IC Continuous (A): 0.1; R1/R2 Typ: 1; V(BR)CEO Min (V): 50; DatasheetVersion: Rev. 0; PackageVersion: Rev. Y, 12/2012; PackageReference: SOT-363-6-419B-02; PackageDescription: 6-Pin Small Outline Transistor, Body 2 x 1.25 mm, Pitch 0.65 mm; Supplier 1: Digi-Key; Supplier Part Number 1: MUN5213DW1T3G-ND; Supplier 2: Mouser; Supplier Part Number 2: 863-MUN5213DW1T3G; Packing: Tape and Reel; Polarity: Dual NPN; RoHS: TRUE; Mounting Technology: Surface Mount; ComponentLink1Description: Manufacturer URL; ComponentLink1URL: http://www.onsemi.com/; ComponentLink2Description: Datasheet; ComponentLink2URL: http://www.onsemi.cn/pub_link/Collateral/DTC144ED-D.PDF; ComponentLink3Description: Package Specification; ComponentLink3URL: http://www.onsemi.cn/pub_link/Collateral/419B-02.PDF
footprint ONSC-SOT-363-6-419B-02_V (SOT23, 6-Leads, Body 2x1.25mm, Pitch 0.65mm)
part A pins: 3 C, 4 E, 5 B
part B pins: 1 E, 2 B, 6 C

## MUN5213T1G
designator Q?
Digital Transistor (BRT), R1=47 kOhm, R2=47 kOhm, NPN Transistor, 3-Pin SC70, Pb-Free, Tape and Reel; Manufacturer: On Semiconductor; PartNumber: MUN5213T1G; hFE Min: 80; IC Continuous (A): 0.1; R1/R2 Typ: 1; V(BR)CEO Min (V): 50; DatasheetVersion: Rev. 2; PackageVersion: Rev. N, 11/2008; PackageReference: SC-70-3-419-04; PackageDescription: 3-Pin Small Outline Transistor, Body 2 x 1.25 mm, Pitch 0.65 mm; Supplier 1: Digi-Key; Supplier Part Number 1: MUN5213T1GOSTR-ND; Supplier 2: Digi-Key; Supplier Part Number 2: MUN5213T1GOSCT-ND; Supplier 3: Digi-Key; Supplier Part Number 3: MUN5213T1GOSDKR-ND; Supplier 4: Farnell; Supplier Part Number 4: 1706038; Supplier 5: Newark; Supplier Part Number 5: 88H4933; Supplier 6: Mouser; Supplier Part Number 6: 863-MUN5213T1G; Packing: Tape and Reel; Polarity: NPN; RoHS: TRUE; Mounting Technology: Surface Mount; ComponentLink1Description: Manufacturer URL; ComponentLink1URL: http://www.onsemi.com/; ComponentLink2Description: Datasheet; ComponentLink2URL: http://www.onsemi.cn/pub_link/Collateral/DTC144E-D.PDF; ComponentLink3Description: Package Specification; ComponentLink3URL: http://www.onsemi.cn/pub_link/Collateral/419-04.PDF
footprint ONSC-SC-70-3-419-04_V (SOT23, 3-Leads, Body 2x1.25mm, Pitch 0.65mm)
pins: 1 B, 2 E, 3 C

## MUN5214DW1T1G
designator Q?
Dual NPN Bias Resistor Transistors, R1=10 kOhm, R2=47 kOhm, NPN Transistor, 6-Pin SOT-363, Pb-Free, Tape and Reel; Manufacturer: On Semiconductor; PartNumber: MUN5214DW1T1G; hFE Min: 80; IC Continuous (A): 0.1; R1/R2 Typ: 0.21; V(BR)CEO Min (V): 50; DatasheetVersion: Rev. 0; PackageVersion: Rev. Y, 12/2012; PackageReference: SOT-363-6-419B-02; PackageDescription: 6-Pin Small Outline Transistor, Body 2 x 1.25 mm, Pitch 0.65 mm; Supplier 1: Digi-Key; Supplier Part Number 1: MUN5214DW1T1GOSTR-ND; Supplier 2: Digi-Key; Supplier Part Number 2: MUN5214DW1T1GOSCT-ND; Supplier 3: Digi-Key; Supplier Part Number 3: MUN5214DW1T1GOSDKR-ND; Supplier 4: Farnell; Supplier Part Number 4: 1705599; Supplier 5: Farnell; Supplier Part Number 5: 2372124; Supplier 6: Newark; Supplier Part Number 6: 10N9540; Supplier 7: Mouser; Supplier Part Number 7: 863-MUN5214DW1T1G; Packing: Tape and Reel; Polarity: Dual NPN; RoHS: TRUE; Mounting Technology: Surface Mount; ComponentLink1Description: Manufacturer URL; ComponentLink1URL: http://www.onsemi.com/; ComponentLink2Description: Datasheet; ComponentLink2URL: http://www.onsemi.cn/pub_link/Collateral/DTC114YD-D.PDF; ComponentLink3Description: Package Specification; ComponentLink3URL: http://www.onsemi.cn/pub_link/Collateral/419B-02.PDF
footprint ONSC-SOT-363-6-419B-02_V (SOT23, 6-Leads, Body 2x1.25mm, Pitch 0.65mm)
part A pins: 3 C, 4 E, 5 B
part B pins: 1 E, 2 B, 6 C

## MUN5214T1G
designator Q?
Digital Transistor (BRT), R1=10 kOhm, R2=47 kOhm, NPN Transistor, 3-Pin SC70, Pb-Free, Tape and Reel; Manufacturer: On Semiconductor; PartNumber: MUN5214T1G; hFE Min: 80; IC Continuous (A): 0.1; R1/R2 Typ: 0.21; V(BR)CEO Min (V): 50; DatasheetVersion: Rev. 3; PackageVersion: Rev. N, 11/2008; PackageReference: SC-70-3-419-04; PackageDescription: 3-Pin Small Outline Transistor, Body 2 x 1.25 mm, Pitch 0.65 mm; Supplier 1: Digi-Key; Supplier Part Number 1: MUN5214T1GOSTR-ND; Supplier 2: Digi-Key; Supplier Part Number 2: MUN5214T1GOSCT-ND; Supplier 3: Digi-Key; Supplier Part Number 3: MUN5214T1GOSDKR-ND; Supplier 4: Newark; Supplier Part Number 4: 88H4935; Supplier 5: Mouser; Supplier Part Number 5: 863-MUN5214T1G; Packing: Tape and Reel; Polarity: NPN; RoHS: TRUE; Mounting Technology: Surface Mount; ComponentLink1Description: Manufacturer URL; ComponentLink1URL: http://www.onsemi.com/; ComponentLink2Description: Datasheet; ComponentLink2URL: http://www.onsemi.cn/pub_link/Collateral/DTC114Y-D.PDF; ComponentLink3Description: Package Specification; ComponentLink3URL: http://www.onsemi.cn/pub_link/Collateral/419-04.PDF
footprint ONSC-SC-70-3-419-04_V (SOT23, 3-Leads, Body 2x1.25mm, Pitch 0.65mm)
pins: 1 B, 2 E, 3 C

## MUN5215DW1T1G
designator Q?
Dual NPN Bias Resistor Transistors, R1=10 kOhm, R2=infinity kOhm, NPN Transistor, 6-Pin SOT-363, Pb-Free, Tape and Reel; Manufacturer: On Semiconductor; PartNumber: MUN5215DW1T1G; hFE Min: 160; IC Continuous (A): 0.1; V(BR)CEO Min (V): 50; DatasheetVersion: Rev. 0; PackageVersion: Rev. W, 01/2006; PackageReference: SOT-363-6-419B-02_W; PackageDescription: 6-Pin Small Outline Transistor, Body 2 x 1.25 mm, Pitch 0.65 mm; Supplier 1: Digi-Key; Supplier Part Number 1: MUN5215DW1T1GOSTR-ND; Supplier 2: Digi-Key; Supplier Part Number 2: MUN5215DW1T1GOSCT-ND; Supplier 3: Digi-Key; Supplier Part Number 3: MUN5215DW1T1GOSDKR-ND; Supplier 4: Newark; Supplier Part Number 4: 84K8821; Supplier 5: Newark; Supplier Part Number 5: 88H4936; Supplier 6: Mouser; Supplier Part Number 6: 863-MUN5215DW1T1G; Packing: Tape and Reel; Polarity: Dual NPN; RoHS: TRUE; Mounting Technology: Surface Mount; ComponentLink1Description: Manufacturer URL; ComponentLink1URL: http://www.onsemi.com/; ComponentLink2Description: Datasheet; ComponentLink2URL: http://www.onsemi.cn/pub_link/Collateral/DTC114TD-D.PDF; ComponentLink3Description: Package Specification; ComponentLink3URL: http://www.onsemi.com/pub_link/Collateral/NTJD4001N-D.PDF
footprint ONSC-SOT-363-6-419B-02_W_V (SOT23, 6-Leads, Body 2x1.25mm, Pitch 0.65mm)
part A pins: 3 C, 4 E, 5 B
part B pins: 1 E, 2 B, 6 C

## MUN5215T1G
designator Q?
Digital Transistor (BRT), R1=10 kOhm, R2=infinity kOhm, NPN Transistor, 3-Pin SC70, Pb-Free, Tape and Reel; Manufacturer: On Semiconductor; PartNumber: MUN5215T1G; hFE Min: 160; IC Continuous (A): 0.1; V(BR)CEO Min (V): 50; DatasheetVersion: Rev. 1; PackageVersion: Rev. N, 11/2008; PackageReference: SC-70-3-419-04; PackageDescription: 3-Pin Small Outline Transistor, Body 2 x 1.25 mm, Pitch 0.65 mm; Supplier 1: Digi-Key; Supplier Part Number 1: MUN5215T1GOSTR-ND; Supplier 2: Digi-Key; Supplier Part Number 2: MUN5215T1GOSCT-ND; Supplier 3: Digi-Key; Supplier Part Number 3: MUN5215T1GOSDKR-ND; Supplier 4: Farnell; Supplier Part Number 4: 2317630; Supplier 5: Newark; Supplier Part Number 5: 85W3173; Supplier 6: Newark; Supplier Part Number 6: 88H4937; Supplier 7: Mouser; Supplier Part Number 7: 863-MUN5215T1G; Packing: Tape and Reel; Polarity: NPN; RoHS: TRUE; Mounting Technology: Surface Mount; ComponentLink1Description: Manufacturer URL; ComponentLink1URL: http://www.onsemi.com/; ComponentLink2Description: Datasheet; ComponentLink2URL: http://www.onsemi.cn/pub_link/Collateral/DTC114T-D.PDF; ComponentLink3Description: Package Specification; ComponentLink3URL: http://www.onsemi.cn/pub_link/Collateral/419-04.PDF
footprint ONSC-SC-70-3-419-04_V (SOT23, 3-Leads, Body 2x1.25mm, Pitch 0.65mm)
pins: 1 B, 2 E, 3 C

## MUN5216DW1T1G
designator Q?
Dual NPN Bias Resistor Transistors, R1=4.7 kOhm, R2=infinity kOhm, NPN Transistor, 6-Pin SOT-363, Pb-Free, Tape and Reel; Manufacturer: On Semiconductor; PartNumber: MUN5216DW1T1G; hFE Min: 160; IC Continuous (A): 0.1; V(BR)CEO Min (V): 50; DatasheetVersion: Rev. 0; PackageVersion: Rev. W, 01/2006; PackageReference: SOT-363-6-419B-02_W; PackageDescription: 6-Pin Small Outline Transistor, Body 2 x 1.25 mm, Pitch 0.65 mm; Supplier 1: Digi-Key; Supplier Part Number 1: MUN5216DW1T1GOSTR-ND; Supplier 2: Digi-Key; Supplier Part Number 2: MUN5216DW1T1GOSCT-ND; Supplier 3: Digi-Key; Supplier Part Number 3: MUN5216DW1T1GOSDKR-ND; Supplier 4: Newark; Supplier Part Number 4: 71J6207; Supplier 5: Mouser; Supplier Part Number 5: 863-MUN5216DW1T1G; Packing: Tape and Reel; Polarity: Dual NPN; RoHS: TRUE; Mounting Technology: Surface Mount; ComponentLink1Description: Manufacturer URL; ComponentLink1URL: http://www.onsemi.com/; ComponentLink2Description: Datasheet; ComponentLink2URL: http://www.onsemi.cn/pub_link/Collateral/DTC143TD-D.PDF; ComponentLink3Description: Package Specification; ComponentLink3URL: http://www.onsemi.com/pub_link/Collateral/NTJD4001N-D.PDF
footprint ONSC-SOT-363-6-419B-02_W_V (SOT23, 6-Leads, Body 2x1.25mm, Pitch 0.65mm)
part A pins: 3 C, 4 E, 5 B
part B pins: 1 E, 2 B, 6 C

## MUN5216T1G
designator Q?
Digital Transistor (BRT), R1=4.7 kOhm, R2=infinity kOhm, NPN Transistor, 3-Pin SC70, Pb-Free, Tape and Reel; Manufacturer: On Semiconductor; PartNumber: MUN5216T1G; hFE Min: 160; IC Continuous (A): 0.1; V(BR)CEO Min (V): 50; DatasheetVersion: Rev. 1; PackageVersion: Rev. N, 11/2008; PackageReference: SC-70-3-419-04; PackageDescription: 3-Pin Small Outline Transistor, Body 2 x 1.25 mm, Pitch 0.65 mm; Supplier 1: Digi-Key; Supplier Part Number 1: MUN5216T1G-ND; Supplier 2: Mouser; Supplier Part Number 2: 863-MUN5216T1G; Packing: Tape and Reel; Polarity: NPN; RoHS: TRUE; Mounting Technology: Surface Mount; ComponentLink1Description: Manufacturer URL; ComponentLink1URL: http://www.onsemi.com/; ComponentLink2Description: Datasheet; ComponentLink2URL: http://www.onsemi.cn/pub_link/Collateral/DTC143T-D.PDF; ComponentLink3Description: Package Specification; ComponentLink3URL: http://www.onsemi.cn/pub_link/Collateral/419-04.PDF
footprint ONSC-SC-70-3-419-04_V (SOT23, 3-Leads, Body 2x1.25mm, Pitch 0.65mm)
pins: 1 B, 2 E, 3 C

## MUN5230DW1T1G
designator Q?
Dual NPN Bias Resistor Transistors, R1=1 kOhm, R2=1 kOhm, NPN Transistor, 6-Pin SOT-363, Pb-Free, Tape and Reel; Manufacturer: On Semiconductor; PartNumber: MUN5230DW1T1G; hFE Min: 3; IC Continuous (A): 0.1; R1/R2 Typ: 1; V(BR)CEO Min (V): 50; DatasheetVersion: Rev. 0; PackageVersion: Rev. W, 01/2006; PackageReference: SOT-363-6-419B-02_W; PackageDescription: 6-Pin Small Outline Transistor, Body 2 x 1.25 mm, Pitch 0.65 mm; Supplier 1: Digi-Key; Supplier Part Number 1: MUN5230DW1T1GOSTR-ND; Supplier 2: Digi-Key; Supplier Part Number 2: MUN5230DW1T1GOSCT-ND; Supplier 3: Digi-Key; Supplier Part Number 3: MUN5230DW1T1GOSDKR-ND; Supplier 4: Farnell; Supplier Part Number 4: 1890485; Supplier 5: Newark; Supplier Part Number 5: 09R9571; Supplier 6: Mouser; Supplier Part Number 6: 863-MUN5230DW1T1G; Packing: Tape and Reel; Polarity: Dual NPN; RoHS: TRUE; Mounting Technology: Surface Mount; ComponentLink1Description: Manufacturer URL; ComponentLink1URL: http://www.onsemi.com/; ComponentLink2Description: Datasheet; ComponentLink2URL: http://www.onsemi.cn/pub_link/Collateral/DTC113ED-D.PDF; ComponentLink3Description: Package Specification; ComponentLink3URL: http://www.onsemi.com/pub_link/Collateral/NTJD4001N-D.PDF
footprint ONSC-SOT-363-6-419B-02_W_V (SOT23, 6-Leads, Body 2x1.25mm, Pitch 0.65mm)
part A pins: 3 C, 4 E, 5 B
part B pins: 1 E, 2 B, 6 C

## MUN5230T1G
designator Q?
Digital Transistor (BRT), R1=1 kOhm, R2=1 kOhm, NPN Transistor, 3-Pin SC70, Pb-Free, Tape and Reel; Manufacturer: On Semiconductor; PartNumber: MUN5230T1G; hFE Min: 3; IC Continuous (A): 0.1; R1/R2 Typ: 1; V(BR)CEO Min (V): 50; DatasheetVersion: Rev. 1; PackageVersion: Rev. N, 11/2008; PackageReference: SC-70-3-419-04; PackageDescription: 3-Pin Small Outline Transistor, Body 2 x 1.25 mm, Pitch 0.65 mm; Supplier 1: Digi-Key; Supplier Part Number 1: MUN5230T1G-ND; Supplier 2: Newark; Supplier Part Number 2: 42K1569; Supplier 3: Mouser; Supplier Part Number 3: 863-MUN5230T1G; Packing: Tape and Reel; Polarity: NPN; RoHS: TRUE; Mounting Technology: Surface Mount; ComponentLink1Description: Manufacturer URL; ComponentLink1URL: http://www.onsemi.com/; ComponentLink2Description: Datasheet; ComponentLink2URL: http://www.onsemi.cn/pub_link/Collateral/DTC113E-D.PDF; ComponentLink3Description: Package Specification; ComponentLink3URL: http://www.onsemi.cn/pub_link/Collateral/419-04.PDF
footprint ONSC-SC-70-3-419-04_V (SOT23, 3-Leads, Body 2x1.25mm, Pitch 0.65mm)
pins: 1 B, 2 E, 3 C

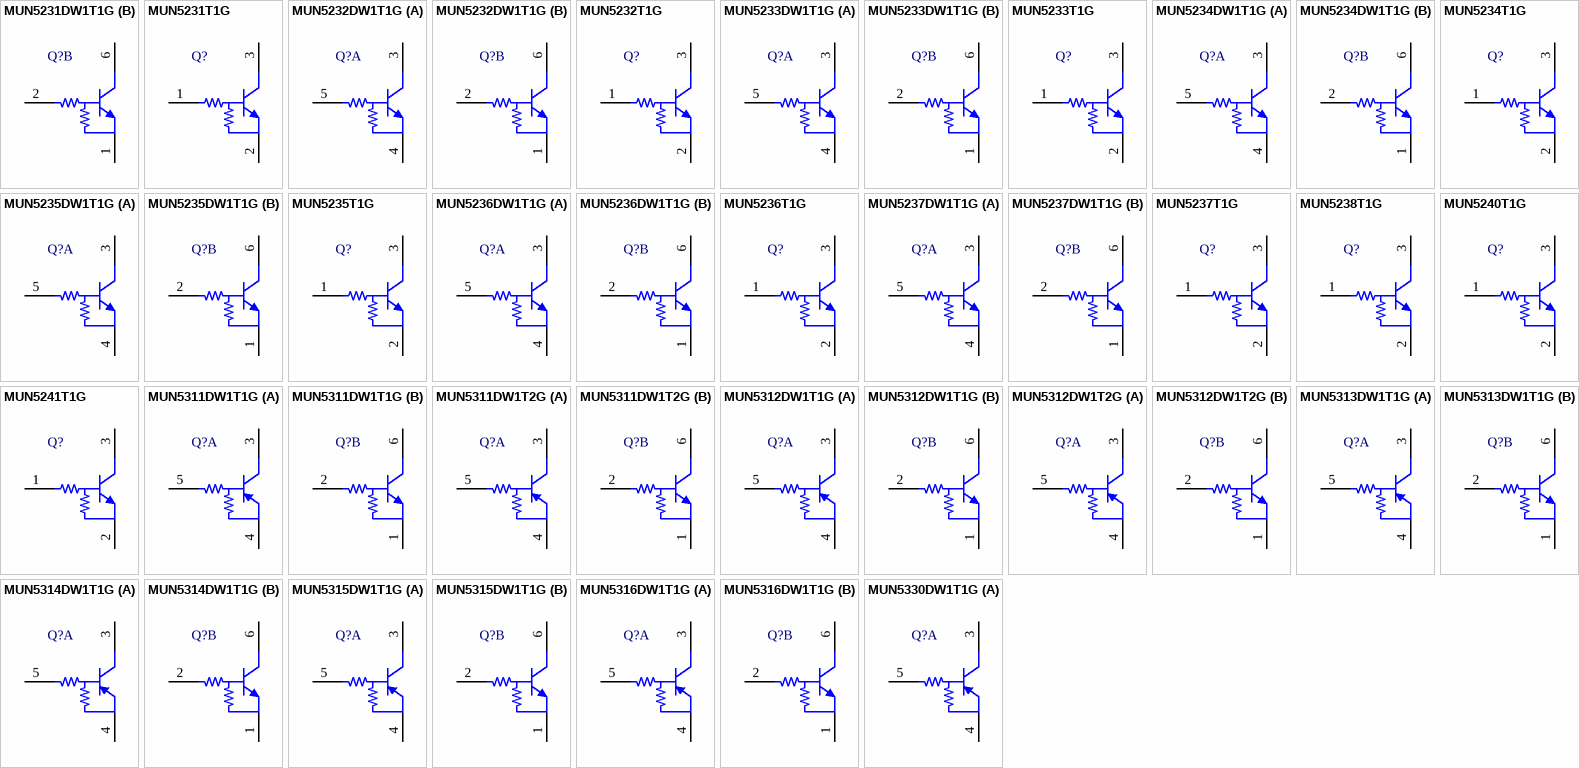
[diagram p6: symbols MUN5231DW1T1G to MUN5330DW1T1G]

## MUN5231DW1T1G
designator Q?
Dual NPN Bias Resistor Transistors, R1=2.2 kOhm, R2=2.2 kOhm, NPN Transistor, 6-Pin SOT-363, Pb-Free, Tape and Reel; Manufacturer: On Semiconductor; PartNumber: MUN5231DW1T1G; hFE Min: 8; IC Continuous (A): 0.1; R1/R2 Typ: 1; V(BR)CEO Min (V): 50; DatasheetVersion: Rev. 0; PackageVersion: Rev. W, 01/2006; PackageReference: SOT-363-6-419B-02_W; PackageDescription: 6-Pin Small Outline Transistor, Body 2 x 1.25 mm, Pitch 0.65 mm; Supplier 1: Digi-Key; Supplier Part Number 1: MUN5231DW1T1G-ND; Supplier 2: Mouser; Supplier Part Number 2: 863-MUN5231DW1T1G; Packing: Tape and Reel; Polarity: Dual NPN; RoHS: TRUE; Mounting Technology: Surface Mount; ComponentLink1Description: Manufacturer URL; ComponentLink1URL: http://www.onsemi.com/; ComponentLink2Description: Datasheet; ComponentLink2URL: http://www.onsemi.cn/pub_link/Collateral/DTC123ED-D.PDF; ComponentLink3Description: Package Specification; ComponentLink3URL: http://www.onsemi.com/pub_link/Collateral/NTJD4001N-D.PDF
footprint ONSC-SOT-363-6-419B-02_W_V (SOT23, 6-Leads, Body 2x1.25mm, Pitch 0.65mm)
part A pins: 3 C, 4 E, 5 B
part B pins: 1 E, 2 B, 6 C

## MUN5231T1G
designator Q?
Digital Transistor (BRT), R1=2.2 kOhm, R2=2.2 kOhm, NPN Transistor, 3-Pin SC70, Pb-Free, Tape and Reel; Manufacturer: On Semiconductor; PartNumber: MUN5231T1G; hFE Min: 8; IC Continuous (A): 0.1; R1/R2 Typ: 1; V(BR)CEO Min (V): 50; DatasheetVersion: Rev. 1; PackageVersion: Rev. N, 11/2008; PackageReference: SC-70-3-419-04; PackageDescription: 3-Pin Small Outline Transistor, Body 2 x 1.25 mm, Pitch 0.65 mm; Supplier 1: Digi-Key; Supplier Part Number 1: MUN5231T1G-ND; Supplier 2: Mouser; Supplier Part Number 2: 863-MUN5231T1G; Packing: Tape and Reel; Polarity: NPN; RoHS: TRUE; Mounting Technology: Surface Mount; ComponentLink1Description: Manufacturer URL; ComponentLink1URL: http://www.onsemi.com/; ComponentLink2Description: Datasheet; ComponentLink2URL: http://www.onsemi.cn/pub_link/Collateral/DTC123E-D.PDF; ComponentLink3Description: Package Specification; ComponentLink3URL: http://www.onsemi.cn/pub_link/Collateral/419-04.PDF
footprint ONSC-SC-70-3-419-04_V (SOT23, 3-Leads, Body 2x1.25mm, Pitch 0.65mm)
pins: 1 B, 2 E, 3 C

## MUN5232DW1T1G
designator Q?
Dual NPN Bias Resistor Transistors, R1=4.7 kOhm, R2=4.7 kOhm, NPN Transistor, 6-Pin SOT-363, Pb-Free, Tape and Reel; Manufacturer: On Semiconductor; PartNumber: MUN5232DW1T1G; hFE Min: 15; IC Continuous (A): 0.1; R1/R2 Typ: 1; V(BR)CEO Min (V): 50; DatasheetVersion: Rev. 0; PackageVersion: Rev. W, 01/2006; PackageReference: SOT-363-6-419B-02_W; PackageDescription: 6-Pin Small Outline Transistor, Body 2 x 1.25 mm, Pitch 0.65 mm; Supplier 1: Digi-Key; Supplier Part Number 1: MUN5232DW1T1GOSTR-ND; Supplier 2: Digi-Key; Supplier Part Number 2: MUN5232DW1T1GOSCT-ND; Supplier 3: Digi-Key; Supplier Part Number 3: MUN5232DW1T1GOSDKR-ND; Supplier 4: Newark; Supplier Part Number 4: 88H4939; Supplier 5: Mouser; Supplier Part Number 5: 863-MUN5232DW1T1G; Packing: Tape and Reel; Polarity: Dual NPN; RoHS: TRUE; Mounting Technology: Surface Mount; ComponentLink1Description: Manufacturer URL; ComponentLink1URL: http://www.onsemi.com/; ComponentLink2Description: Datasheet; ComponentLink2URL: http://www.onsemi.cn/pub_link/Collateral/DTC143ED-D.PDF; ComponentLink3Description: Package Specification; ComponentLink3URL: http://www.onsemi.com/pub_link/Collateral/NTJD4001N-D.PDF
footprint ONSC-SOT-363-6-419B-02_W_V (SOT23, 6-Leads, Body 2x1.25mm, Pitch 0.65mm)
part A pins: 3 C, 4 E, 5 B
part B pins: 1 E, 2 B, 6 C

## MUN5232T1G
designator Q?
Digital Transistor (BRT), R1=4.7 kOhm, R2=4.7 kOhm, NPN Transistor, 3-Pin SC70, Pb-Free, Tape and Reel; Manufacturer: On Semiconductor; PartNumber: MUN5232T1G; hFE Min: 15; IC Continuous (A): 0.1; R1/R2 Typ: 1; V(BR)CEO Min (V): 50; DatasheetVersion: Rev. 2; PackageVersion: Rev. N, 11/2008; PackageReference: SC-70-3-419-04; PackageDescription: 3-Pin Small Outline Transistor, Body 2 x 1.25 mm, Pitch 0.65 mm; Supplier 1: Digi-Key; Supplier Part Number 1: MUN5232T1G-ND; Supplier 2: Newark; Supplier Part Number 2: 45J1724; Supplier 3: Mouser; Supplier Part Number 3: 863-MUN5232T1G; Packing: Tape and Reel; Polarity: NPN; RoHS: TRUE; Mounting Technology: Surface Mount; ComponentLink1Description: Manufacturer URL; ComponentLink1URL: http://www.onsemi.com/; ComponentLink2Description: Datasheet; ComponentLink2URL: http://www.onsemi.cn/pub_link/Collateral/DTC143E-D.PDF; ComponentLink3Description: Package Specification; ComponentLink3URL: http://www.onsemi.cn/pub_link/Collateral/419-04.PDF
footprint ONSC-SC-70-3-419-04_V (SOT23, 3-Leads, Body 2x1.25mm, Pitch 0.65mm)
pins: 1 B, 2 E, 3 C

## MUN5233DW1T1G
designator Q?
Dual NPN Bias Resistor Transistors, R1=4.7 kOhm, R2=47 kOhm, NPN Transistor, 6-Pin SOT-363, Pb-Free, Tape and Reel; Manufacturer: On Semiconductor; PartNumber: MUN5233DW1T1G; hFE Min: 80; IC Continuous (A): 0.1; V(BR)CEO Min (V): 50; DatasheetVersion: Rev. 1; PackageVersion: Rev. W, 01/2006; PackageReference: SOT-363-6-419B-02_W; PackageDescription: 6-Pin Small Outline Transistor, Body 2 x 1.25 mm, Pitch 0.65 mm; Supplier 1: Digi-Key; Supplier Part Number 1: MUN5233DW1T1GOSTR-ND; Supplier 2: Digi-Key; Supplier Part Number 2: MUN5233DW1T1GOSCT-ND; Supplier 3: Digi-Key; Supplier Part Number 3: MUN5233DW1T1GOSDKR-ND; Supplier 4: Newark; Supplier Part Number 4: 26K4683; Supplier 5: Mouser; Supplier Part Number 5: 863-MUN5233DW1T1G; Packing: Tape and Reel; Polarity: Dual NPN; R1/R2 Typ: 0.1; RoHS: TRUE; Mounting Technology: Surface Mount; ComponentLink1Description: Manufacturer URL; ComponentLink1URL: http://www.onsemi.com/; ComponentLink2Description: Datasheet; ComponentLink2URL: http://www.onsemi.cn/pub_link/Collateral/DTC143ZD-D.PDF; ComponentLink3Description: Package Specification; ComponentLink3URL: http://www.onsemi.com/pub_link/Collateral/NTJD4001N-D.PDF
footprint ONSC-SOT-363-6-419B-02_W_V (SOT23, 6-Leads, Body 2x1.25mm, Pitch 0.65mm)
part A pins: 3 C, 4 E, 5 B
part B pins: 1 E, 2 B, 6 C